# Altium integrated library testpad.IntLib: 158 symbols
Pins are listed as number, name and electrical type; pins without a type are passive.

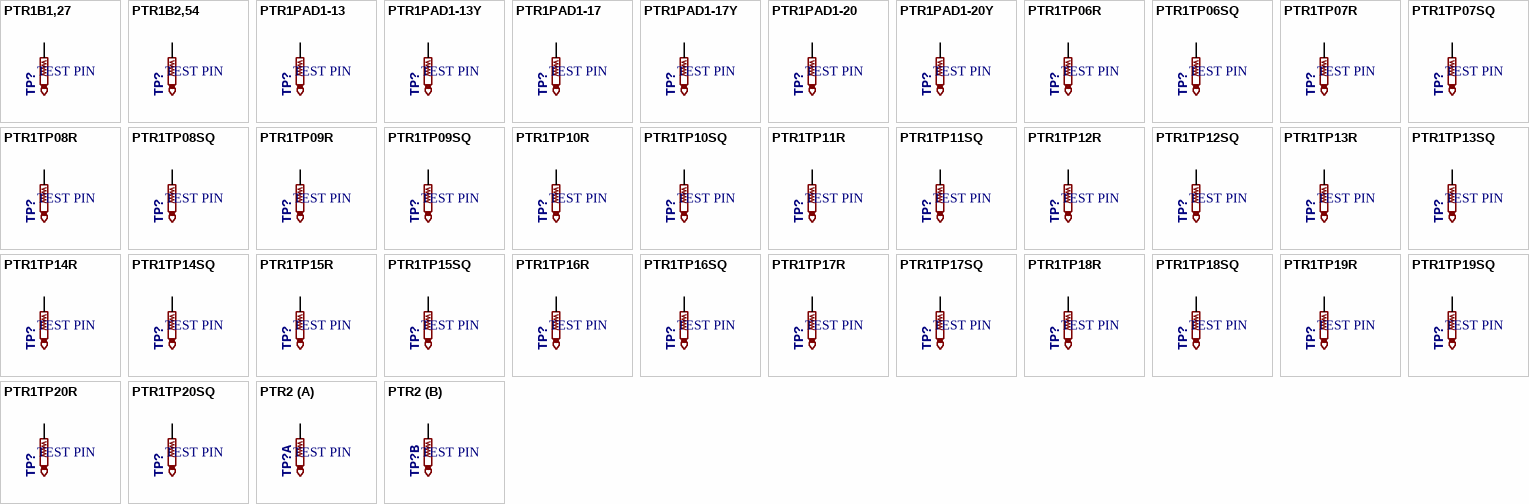
[diagram p0: symbols PTR1B1,27 to PTR2]

## PTR1B1,27
designator TP?, comment TEST PIN
footprint B1,27
pins: TP

## PTR1B2,54
designator TP?, comment TEST PIN
footprint B2,54
pins: TP

## PTR1PAD1-13
designator TP?, comment TEST PIN
footprint P1-13
pins: TP

## PTR1PAD1-13Y
designator TP?, comment TEST PIN
footprint P1-13Y
pins: TP

## PTR1PAD1-17
designator TP?, comment TEST PIN
footprint P1-17
pins: TP

## PTR1PAD1-17Y
designator TP?, comment TEST PIN
footprint P1-17Y
pins: TP

## PTR1PAD1-20
designator TP?, comment TEST PIN
footprint P1-20
pins: TP

## PTR1PAD1-20Y
designator TP?, comment TEST PIN
footprint P1-20Y
pins: TP

## PTR1TP06R
designator TP?, comment TEST PIN
footprint TP06R
pins: TP

## PTR1TP06SQ
designator TP?, comment TEST PIN
footprint TP06SQ
pins: TP

## PTR1TP07R
designator TP?, comment TEST PIN
footprint TP07R
pins: TP

## PTR1TP07SQ
designator TP?, comment TEST PIN
footprint TP07SQ
pins: TP

## PTR1TP08R
designator TP?, comment TEST PIN
footprint TP08R
pins: TP

## PTR1TP08SQ
designator TP?, comment TEST PIN
footprint TP08SQ
pins: TP

## PTR1TP09R
designator TP?, comment TEST PIN
footprint TP09R
pins: TP

## PTR1TP09SQ
designator TP?, comment TEST PIN
footprint TP09SQ
pins: TP

## PTR1TP10R
designator TP?, comment TEST PIN
footprint TP10R
pins: TP

## PTR1TP10SQ
designator TP?, comment TEST PIN
footprint TP10SQ
pins: TP

## PTR1TP11R
designator TP?, comment TEST PIN
footprint TP11R
pins: TP

## PTR1TP11SQ
designator TP?, comment TEST PIN
footprint TP11SQ
pins: TP

## PTR1TP12R
designator TP?, comment TEST PIN
footprint TP12R
pins: TP

## PTR1TP12SQ
designator TP?, comment TEST PIN
footprint TP12SQ
pins: TP

## PTR1TP13R
designator TP?, comment TEST PIN
footprint TP13R
pins: TP

## PTR1TP13SQ
designator TP?, comment TEST PIN
footprint TP13SQ
pins: TP

## PTR1TP14R
designator TP?, comment TEST PIN
footprint TP14R
pins: TP

## PTR1TP14SQ
designator TP?, comment TEST PIN
footprint TP14SQ
pins: TP

## PTR1TP15R
designator TP?, comment TEST PIN
footprint TP15R
pins: TP

## PTR1TP15SQ
designator TP?, comment TEST PIN
footprint TP15SQ
pins: TP

## PTR1TP16R
designator TP?, comment TEST PIN
footprint TP16R
pins: TP

## PTR1TP16SQ
designator TP?, comment TEST PIN
footprint TP16SQ
pins: TP

## PTR1TP17R
designator TP?, comment TEST PIN
footprint TP17R
pins: TP

## PTR1TP17SQ
designator TP?, comment TEST PIN
footprint TP17SQ
pins: TP

## PTR1TP18R
designator TP?, comment TEST PIN
footprint TP18R
pins: TP

## PTR1TP18SQ
designator TP?, comment TEST PIN
footprint TP18SQ
pins: TP

## PTR1TP19R
designator TP?, comment TEST PIN
footprint TP19R
pins: TP

## PTR1TP19SQ
designator TP?, comment TEST PIN
footprint TP19SQ
pins: TP

## PTR1TP20R
designator TP?, comment TEST PIN
footprint TP20R
pins: TP

## PTR1TP20SQ
designator TP?, comment TEST PIN
footprint TP20SQ
pins: TP

## PTR2
designator TP?, comment TEST PIN
footprint P2-38-17
part A pins: TP-1 TP
part B pins: TP-2 TP

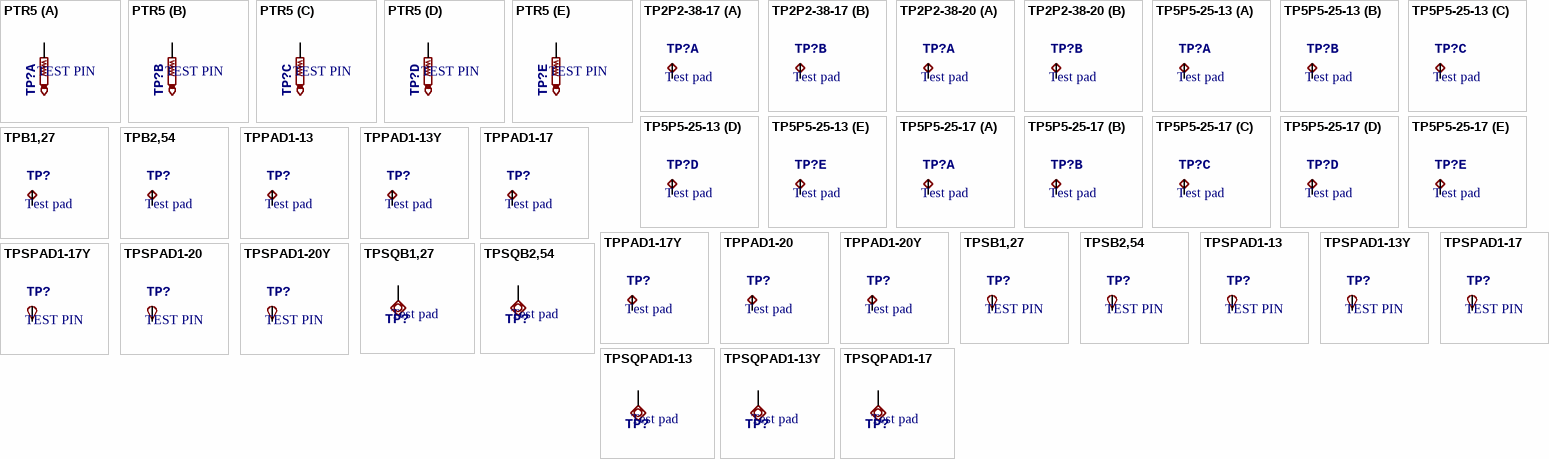
[diagram p1: symbols PTR5 to TPSQPAD1-17]

## PTR5
designator TP?, comment TEST PIN
footprint P5-25-17
part A pins: TP-1 TP
part B pins: TP-2 TP
part C pins: TP-3 TP
part D pins: TP-4 TP
part E pins: TP-5 TP

## TP2P2-38-17
designator TP?, comment Test pad
footprint P2-38-17
part A pins: TP-1 TP
part B pins: TP-2 TP

## TP2P2-38-20
designator TP?, comment Test pad
footprint P2-38-20
part A pins: TP-1 TP
part B pins: TP-2 TP

## TP5P5-25-13
designator TP?, comment Test pad
footprint P5-25-13
part A pins: TP-1 TP
part B pins: TP-2 TP
part C pins: TP-3 TP
part D pins: TP-4 TP
part E pins: TP-5 TP

## TP5P5-25-17
designator TP?, comment Test pad
footprint P5-25-17
part A pins: TP-1 TP
part B pins: TP-2 TP
part C pins: TP-3 TP
part D pins: TP-4 TP
part E pins: TP-5 TP

## TPB1,27
designator TP?, comment Test pad
footprint B1,27
pins: TP

## TPB2,54
designator TP?, comment Test pad
footprint B2,54
pins: TP

## TPPAD1-13
designator TP?, comment Test pad
footprint P1-13
pins: TP

## TPPAD1-13Y
designator TP?, comment Test pad
footprint P1-13Y
pins: TP

## TPPAD1-17
designator TP?, comment Test pad
footprint P1-17
pins: TP

## TPPAD1-17Y
designator TP?, comment Test pad
footprint P1-17Y
pins: TP

## TPPAD1-20
designator TP?, comment Test pad
footprint P1-20
pins: TP

## TPPAD1-20Y
designator TP?, comment Test pad
footprint P1-20Y
pins: TP

## TPSB1,27
designator TP?, comment TEST PIN
footprint B1,27
pins: TP PP

## TPSB2,54
designator TP?, comment TEST PIN
footprint B2,54
pins: TP PP

## TPSPAD1-13
designator TP?, comment TEST PIN
footprint P1-13
pins: TP PP

## TPSPAD1-13Y
designator TP?, comment TEST PIN
footprint P1-13Y
pins: TP PP

## TPSPAD1-17
designator TP?, comment TEST PIN
footprint P1-17
pins: TP PP

## TPSPAD1-17Y
designator TP?, comment TEST PIN
footprint P1-17Y
pins: TP PP

## TPSPAD1-20
designator TP?, comment TEST PIN
footprint P1-20
pins: TP PP

## TPSPAD1-20Y
designator TP?, comment TEST PIN
footprint P1-20Y
pins: TP PP

## TPSQB1,27
designator TP?, comment Test pad
footprint B1,27
pins: TP

## TPSQB2,54
designator TP?, comment Test pad
footprint B2,54
pins: TP

## TPSQPAD1-13
designator TP?, comment Test pad
footprint P1-13
pins: TP

## TPSQPAD1-13Y
designator TP?, comment Test pad
footprint P1-13Y
pins: TP

## TPSQPAD1-17
designator TP?, comment Test pad
footprint P1-17
pins: TP

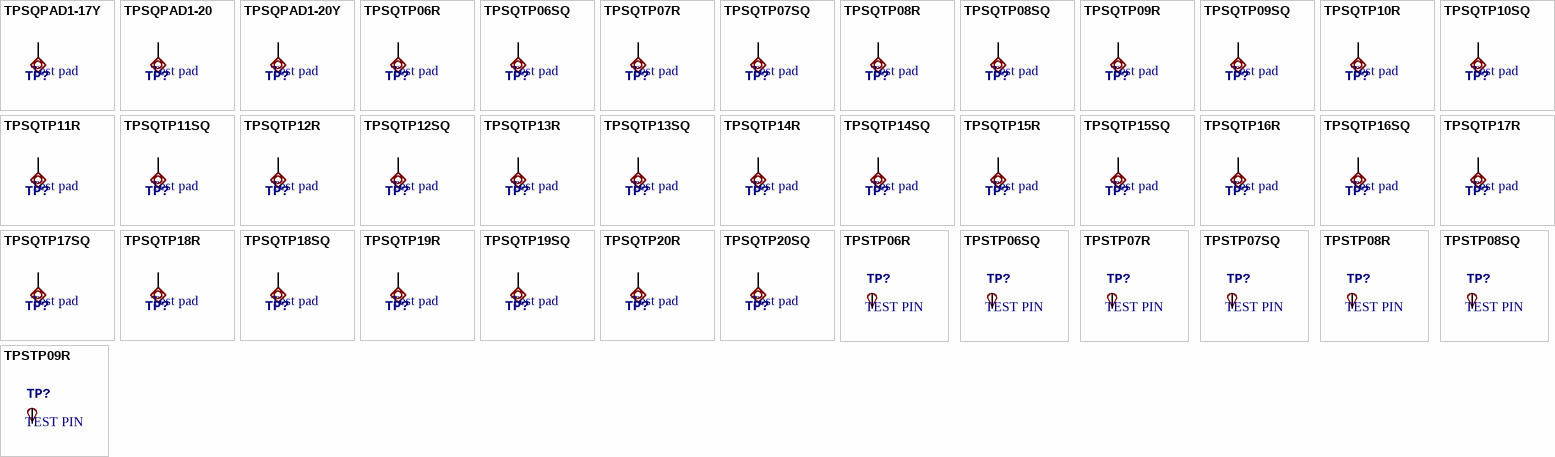
[diagram p2: symbols TPSQPAD1-17Y to TPSTP09R]

## TPSQPAD1-17Y
designator TP?, comment Test pad
footprint P1-17Y
pins: TP

## TPSQPAD1-20
designator TP?, comment Test pad
footprint P1-20
pins: TP

## TPSQPAD1-20Y
designator TP?, comment Test pad
footprint P1-20Y
pins: TP

## TPSQTP06R
designator TP?, comment Test pad
footprint TP06R
pins: TP

## TPSQTP06SQ
designator TP?, comment Test pad
footprint TP06SQ
pins: TP

## TPSQTP07R
designator TP?, comment Test pad
footprint TP07R
pins: TP

## TPSQTP07SQ
designator TP?, comment Test pad
footprint TP07SQ
pins: TP

## TPSQTP08R
designator TP?, comment Test pad
footprint TP08R
pins: TP

## TPSQTP08SQ
designator TP?, comment Test pad
footprint TP08SQ
pins: TP

## TPSQTP09R
designator TP?, comment Test pad
footprint TP09R
pins: TP

## TPSQTP09SQ
designator TP?, comment Test pad
footprint TP09SQ
pins: TP

## TPSQTP10R
designator TP?, comment Test pad
footprint TP10R
pins: TP

## TPSQTP10SQ
designator TP?, comment Test pad
footprint TP10SQ
pins: TP

## TPSQTP11R
designator TP?, comment Test pad
footprint TP11R
pins: TP

## TPSQTP11SQ
designator TP?, comment Test pad
footprint TP11SQ
pins: TP

## TPSQTP12R
designator TP?, comment Test pad
footprint TP12R
pins: TP

## TPSQTP12SQ
designator TP?, comment Test pad
footprint TP12SQ
pins: TP

## TPSQTP13R
designator TP?, comment Test pad
footprint TP13R
pins: TP

## TPSQTP13SQ
designator TP?, comment Test pad
footprint TP13SQ
pins: TP

## TPSQTP14R
designator TP?, comment Test pad
footprint TP14R
pins: TP

## TPSQTP14SQ
designator TP?, comment Test pad
footprint TP14SQ
pins: TP

## TPSQTP15R
designator TP?, comment Test pad
footprint TP15R
pins: TP

## TPSQTP15SQ
designator TP?, comment Test pad
footprint TP15SQ
pins: TP

## TPSQTP16R
designator TP?, comment Test pad
footprint TP16R
pins: TP

## TPSQTP16SQ
designator TP?, comment Test pad
footprint TP16SQ
pins: TP

## TPSQTP17R
designator TP?, comment Test pad
footprint TP17R
pins: TP

## TPSQTP17SQ
designator TP?, comment Test pad
footprint TP17SQ
pins: TP

## TPSQTP18R
designator TP?, comment Test pad
footprint TP18R
pins: TP

## TPSQTP18SQ
designator TP?, comment Test pad
footprint TP18SQ
pins: TP

## TPSQTP19R
designator TP?, comment Test pad
footprint TP19R
pins: TP

## TPSQTP19SQ
designator TP?, comment Test pad
footprint TP19SQ
pins: TP

## TPSQTP20R
designator TP?, comment Test pad
footprint TP20R
pins: TP

## TPSQTP20SQ
designator TP?, comment Test pad
footprint TP20SQ
pins: TP

## TPSTP06R
designator TP?, comment TEST PIN
footprint TP06R
pins: TP PP

## TPSTP06SQ
designator TP?, comment TEST PIN
footprint TP06SQ
pins: TP PP

## TPSTP07R
designator TP?, comment TEST PIN
footprint TP07R
pins: TP PP

## TPSTP07SQ
designator TP?, comment TEST PIN
footprint TP07SQ
pins: TP PP

## TPSTP08R
designator TP?, comment TEST PIN
footprint TP08R
pins: TP PP

## TPSTP08SQ
designator TP?, comment TEST PIN
footprint TP08SQ
pins: TP PP

## TPSTP09R
designator TP?, comment TEST PIN
footprint TP09R
pins: TP PP

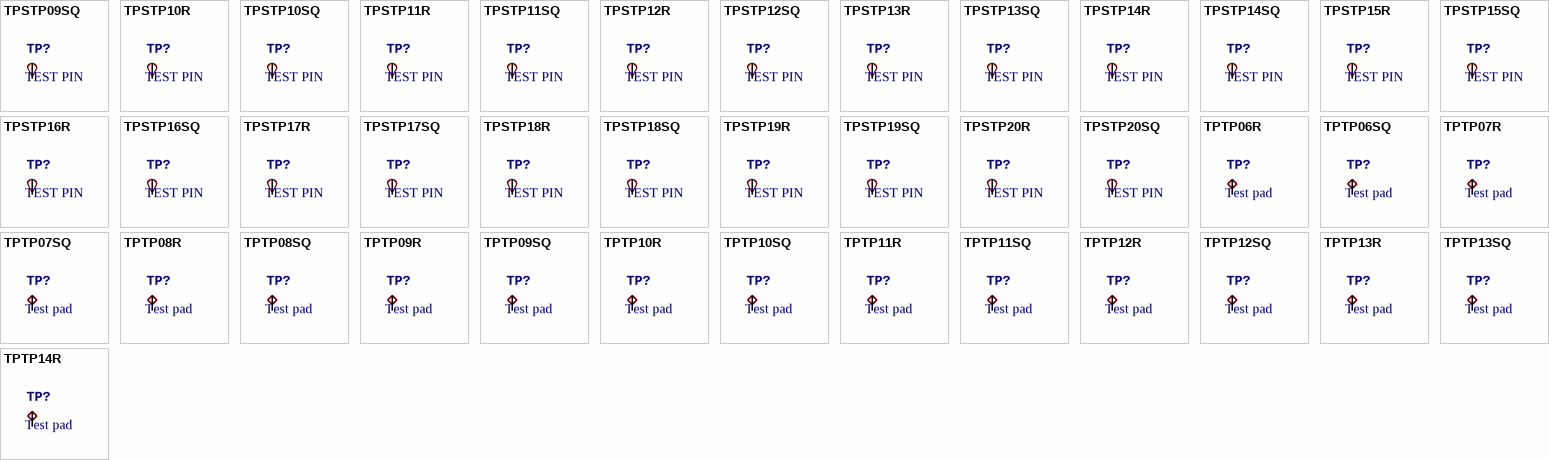
[diagram p3: symbols TPSTP09SQ to TPTP14R]

## TPSTP09SQ
designator TP?, comment TEST PIN
footprint TP09SQ
pins: TP PP

## TPSTP10R
designator TP?, comment TEST PIN
footprint TP10R
pins: TP PP

## TPSTP10SQ
designator TP?, comment TEST PIN
footprint TP10SQ
pins: TP PP

## TPSTP11R
designator TP?, comment TEST PIN
footprint TP11R
pins: TP PP

## TPSTP11SQ
designator TP?, comment TEST PIN
footprint TP11SQ
pins: TP PP

## TPSTP12R
designator TP?, comment TEST PIN
footprint TP12R
pins: TP PP

## TPSTP12SQ
designator TP?, comment TEST PIN
footprint TP12SQ
pins: TP PP

## TPSTP13R
designator TP?, comment TEST PIN
footprint TP13R
pins: TP PP

## TPSTP13SQ
designator TP?, comment TEST PIN
footprint TP13SQ
pins: TP PP

## TPSTP14R
designator TP?, comment TEST PIN
footprint TP14R
pins: TP PP

## TPSTP14SQ
designator TP?, comment TEST PIN
footprint TP14SQ
pins: TP PP

## TPSTP15R
designator TP?, comment TEST PIN
footprint TP15R
pins: TP PP

## TPSTP15SQ
designator TP?, comment TEST PIN
footprint TP15SQ
pins: TP PP

## TPSTP16R
designator TP?, comment TEST PIN
footprint TP16R
pins: TP PP

## TPSTP16SQ
designator TP?, comment TEST PIN
footprint TP16SQ
pins: TP PP

## TPSTP17R
designator TP?, comment TEST PIN
footprint TP17R
pins: TP PP

## TPSTP17SQ
designator TP?, comment TEST PIN
footprint TP17SQ
pins: TP PP

## TPSTP18R
designator TP?, comment TEST PIN
footprint TP18R
pins: TP PP

## TPSTP18SQ
designator TP?, comment TEST PIN
footprint TP18SQ
pins: TP PP

## TPSTP19R
designator TP?, comment TEST PIN
footprint TP19R
pins: TP PP

## TPSTP19SQ
designator TP?, comment TEST PIN
footprint TP19SQ
pins: TP PP

## TPSTP20R
designator TP?, comment TEST PIN
footprint TP20R
pins: TP PP

## TPSTP20SQ
designator TP?, comment TEST PIN
footprint TP20SQ
pins: TP PP

## TPTP06R
designator TP?, comment Test pad
footprint TP06R
pins: TP

## TPTP06SQ
designator TP?, comment Test pad
footprint TP06SQ
pins: TP

## TPTP07R
designator TP?, comment Test pad
footprint TP07R
pins: TP

## TPTP07SQ
designator TP?, comment Test pad
footprint TP07SQ
pins: TP

## TPTP08R
designator TP?, comment Test pad
footprint TP08R
pins: TP

## TPTP08SQ
designator TP?, comment Test pad
footprint TP08SQ
pins: TP

## TPTP09R
designator TP?, comment Test pad
footprint TP09R
pins: TP

## TPTP09SQ
designator TP?, comment Test pad
footprint TP09SQ
pins: TP

## TPTP10R
designator TP?, comment Test pad
footprint TP10R
pins: TP

## TPTP10SQ
designator TP?, comment Test pad
footprint TP10SQ
pins: TP

## TPTP11R
designator TP?, comment Test pad
footprint TP11R
pins: TP

## TPTP11SQ
designator TP?, comment Test pad
footprint TP11SQ
pins: TP

## TPTP12R
designator TP?, comment Test pad
footprint TP12R
pins: TP

## TPTP12SQ
designator TP?, comment Test pad
footprint TP12SQ
pins: TP

## TPTP13R
designator TP?, comment Test pad
footprint TP13R
pins: TP

## TPTP13SQ
designator TP?, comment Test pad
footprint TP13SQ
pins: TP

## TPTP14R
designator TP?, comment Test pad
footprint TP14R
pins: TP

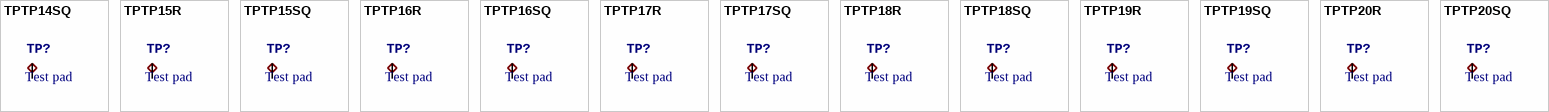
[diagram p4: symbols TPTP14SQ to TPTP20SQ]

## TPTP14SQ
designator TP?, comment Test pad
footprint TP14SQ
pins: TP

## TPTP15R
designator TP?, comment Test pad
footprint TP15R
pins: TP

## TPTP15SQ
designator TP?, comment Test pad
footprint TP15SQ
pins: TP

## TPTP16R
designator TP?, comment Test pad
footprint TP16R
pins: TP

## TPTP16SQ
designator TP?, comment Test pad
footprint TP16SQ
pins: TP

## TPTP17R
designator TP?, comment Test pad
footprint TP17R
pins: TP

## TPTP17SQ
designator TP?, comment Test pad
footprint TP17SQ
pins: TP

## TPTP18R
designator TP?, comment Test pad
footprint TP18R
pins: TP

## TPTP18SQ
designator TP?, comment Test pad
footprint TP18SQ
pins: TP

## TPTP19R
designator TP?, comment Test pad
footprint TP19R
pins: TP

## TPTP19SQ
designator TP?, comment Test pad
footprint TP19SQ
pins: TP

## TPTP20R
designator TP?, comment Test pad
footprint TP20R
pins: TP

## TPTP20SQ
designator TP?, comment Test pad
footprint TP20SQ
pins: TP